# Altium footprint library MitchSwitch_Bypass.PCBLIB: 270 footprints (part 13 of 17)
Each footprint in its own frame and in the unit in brackets; x right, y up, seen from the top. Pads: shape width x height; smd on the part's side, far side on the other; paste and mask are expansions set on the pad; w line width, h text height; cw(c..) or ccw(c..) is an arc to the next point about the centre after c.
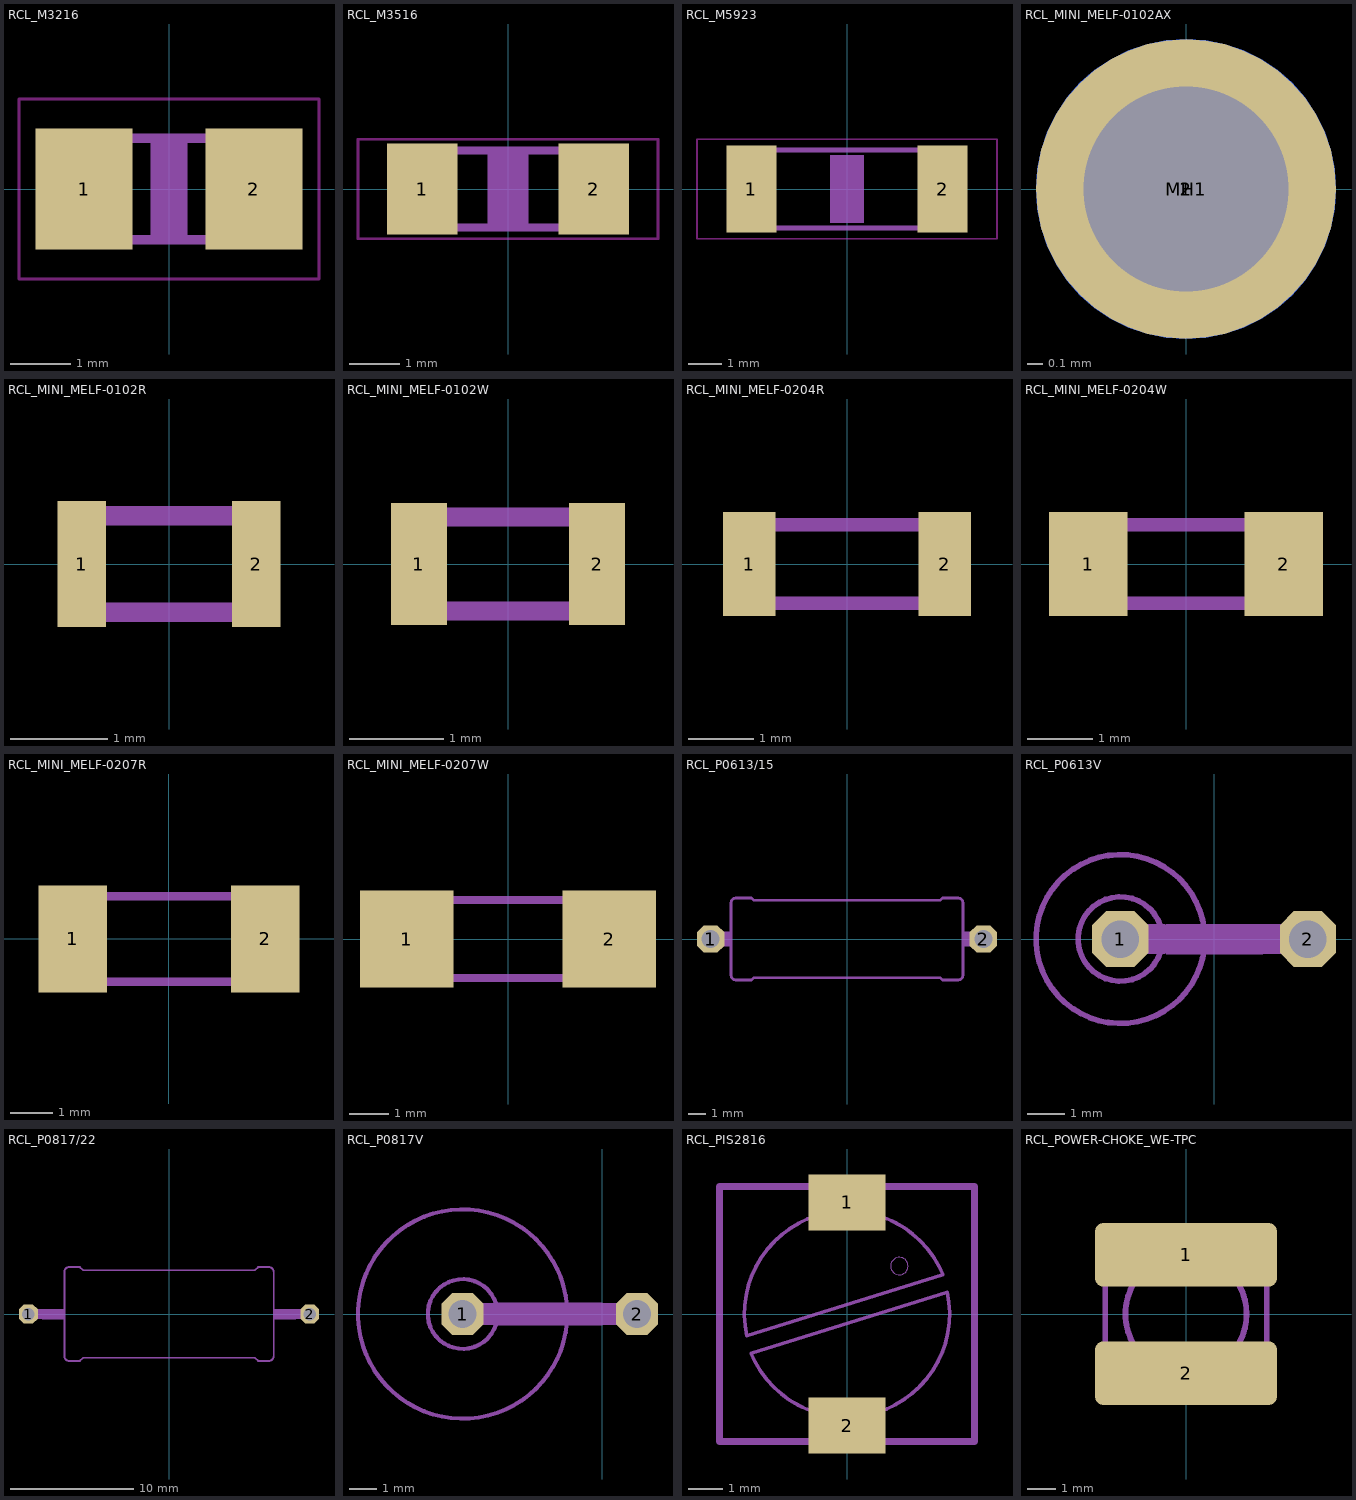
[diagram p12: the footprints below, top view; thin cyan lines are the x and y axes]

## RCL_M3216 [mm]
pads (2):
  rect 1.6x2 smd: 1(-1.4,0) 2(1.4,0)
Top Layer keep-out:
  lines w0.051: -2.473,-1.483 2.473,-1.483 2.473,1.483 -2.473,1.483 -2.473,-1.483
Mechanical 3:
  region: -1.702,-0.914 -1.702,0.914 -1.118,0.914 -1.118,-0.914
  region: 1.118,-0.914 1.118,0.914 1.702,0.914 1.702,-0.914
  lines w0.152: -1.143,-0.838 1.143,-0.838 ; -1.143,0.838 1.143,0.838
Top Glue Points:
  region: -0.3,-0.8 -0.3,0.8 0.3,0.8 0.3,-0.8

## RCL_M3516 [mil]
pads (2):
  rect 55.12x70.87 smd: 1(-66.93,0) 2(66.93,0)
Top Layer keep-out:
  lines w2: -117.05,-38.7 117.05,-38.7 117.05,38.7 -117.05,38.7 -117.05,-38.7
Mechanical 3:
  region: -73,-33 -73,33 -51,33 -51,-33
  region: 51,-33 51,33 73,33 73,-33
  lines w6: -52,-30 52,-30 ; -52,30 52,30
Top Glue Points:
  region: -15.75,-27.56 -15.75,27.56 15.75,27.56 15.75,-27.56

## RCL_M5923 [mil]
pads (2):
  rect 59.06x102.36 smd: 1(-112.2,0) 2(112.2,0)
Top Layer keep-out:
  lines w2: -176.1,-58.39 176.1,-58.39 176.1,58.39 -176.1,58.39 -176.1,-58.39
Mechanical 3:
  region: -120,-49 -120,49 -94,49 -94,-49
  region: 94,-49 94,49 120,49 120,-49
  lines w6: -96,46 95,46 ; -95,-46 95,-46
Top Glue Points:
  region: -19.69,-39.37 -19.69,39.37 19.69,39.37 19.69,-39.37

## RCL_MINI_MELF-0102AX [mil]
pads (3):
  rrect100% 74.8x74.8 smd: 1(0,0)
  rrect100% 74.8x74.8 smd far side: 2(0,0)
  round 51.18 hole 51.18 unplated: MH1(0,0)
Mechanical 3:
  circle w0: c0,0 r23.62
Mechanical 4:
  circle w0: c0,0 r23.62

## RCL_MINI_MELF-0102R [mil]
pads (2):
  rect 19.69x51.18 smd: 1(-35.43,0) 2(35.43,0)
Mechanical 3:
  lines w8: -39.37,-19.69 39.37,-19.69 39.37,19.69 -39.37,19.69 -39.37,-19.69

## RCL_MINI_MELF-0102W [mil]
pads (2):
  rect 23.62x51.18 smd: 1(-37.4,0) 2(37.4,0)
Mechanical 3:
  lines w8: -39.37,-19.69 39.37,-19.69 39.37,19.69 -39.37,19.69 -39.37,-19.69

## RCL_MINI_MELF-0204R [mil]
pads (2):
  rect 31.5x62.99 smd: 1(-59.06,0) 2(59.06,0)
Mechanical 3:
  lines w8: -66.93,-23.62 66.93,-23.62 66.93,23.62 -66.93,23.62 -66.93,-23.62
Mechanical 7:
  lines w8: -36.93,-23.62 36.93,-23.62 ; -36.93,23.62 36.93,23.62

## RCL_MINI_MELF-0204W [mil]
pads (2):
  rect 47.24x62.99 smd: 1(-59.06,0) 2(59.06,0)
Mechanical 3:
  lines w8: -66.93,-23.62 66.93,-23.62 66.93,23.62 -66.93,23.62 -66.93,-23.62
Mechanical 7:
  lines w8: -26.93,-23.62 26.93,-23.62 ; -26.93,23.62 26.93,23.62

## RCL_MINI_MELF-0207R [mil]
pads (2):
  rect 62.99x98.43 smd: 1(-88.58,0) 2(88.58,0)
Mechanical 3:
  lines w8: -110.24,-39.37 110.24,-39.37 110.24,39.37 -110.24,39.37 -110.24,-39.37
Mechanical 7:
  lines w8: -47.74,-39.37 47.74,-39.37 ; -47.74,39.37 47.74,39.37

## RCL_MINI_MELF-0207W [mil]
pads (2):
  rect 94.49x98.43 smd: 1(-102.36,0) 2(102.36,0)
Mechanical 3:
  lines w8: -110.24,-39.37 110.24,-39.37 110.24,39.37 -110.24,39.37 -110.24,-39.37
Mechanical 7:
  lines w8: -45.24,-39.37 45.24,-39.37 ; -45.24,39.37 45.24,39.37

## RCL_P0613/15 [mil]
pads (2):
  oct 60x60 / inner round 55.43 / far side oct 60x60 hole 40: 1(-300,0) 2(300,0)
Mechanical 3:
  region: -277,-16 -277,16 -255,16 -255,-16
  region: 255,-16 255,16 277,16 277,-16
  lines w6: -255,-25 -255,25 ; 255,-25 255,25
  lines w32: -300,0 -275,0 ; 275,0 300,0
Mechanical 7:
  lines w6: -255,-25 -255,-80 ccw(c-245,-80) -245,-90 -210,-90 -205,-85 205,-85 210,-90 245,-90 ccw(c245,-80) 255,-80 255,-25 ; -255,25 -255,80 cw(c-245,80) -245,90 -210,90 -205,85 205,85 210,90 245,90 cw(c245,80) 255,80 255,25

## RCL_P0613V [mil]
pads (2):
  oct 60x60 / inner round 55.43 / far side oct 60x60 hole 40: 1(-100,0) 2(100,0)
Mechanical 3:
  circle w6: c-100,0 r45
  lines w32: -100,0 -55,0 ; 55,0 100,0
Mechanical 7:
  circle w6: c-100,0 r90
  region: -51,-16 -51,16 52,16 52,-16

## RCL_P0817/22 [mil]
pads (2):
  oct 60x60 / inner round 55.43 / far side oct 60x60 hole 40: 1(-450,0) 2(450,0)
Mechanical 3:
  lines w32: -450,0 -410,0 ; 410,0 450,0
  text "0817" at 260,-89 h77.5
Mechanical 7:
  region: 335,-16 335,16 406,16 406,-16
  region: -406,-16 -406,16 -335,16 -335,-16
  lines w6: -335,-135 -335,135 cw(c-320,135) -320,150 -285,150 -275,140 275,140 285,150 320,150 cw(c320,135) 335,135 335,-135 cw(c320,-135) 320,-150 285,-150 275,-140 -275,-140 -285,-150 -320,-150 cw(c-320,-135) -335,-135

## RCL_P0817V [mil]
pads (2):
  oct 60x60 / inner round 55.43 / far side oct 60x60 hole 40: 1(-200,0) 2(50,0)
Mechanical 3:
  circle w6: c-200,0 r50
  lines w32: -200,0 -150,0 ; 0,0 50,0
Mechanical 7:
  circle w6: c-200,0 r150
  region: -150,-16 -150,16 0,16 0,-16
  text "0817" at -270,80 h62

## RCL_PIS2816 [mil]
pads (2):
  rect 86.61x62.99 smd: 1(0,125.98) 2(0,-125.98)
Mechanical 3:
  lines w4: -113.19,-24.61 cw(c0.6,0) 108.27,44.29 ; -108.27,-44.29 ccw(c-0.6,0) 113.19,24.61
  lines w8: -143.7,-143.7 143.7,-143.7 ; -143.7,143.7 143.7,143.7
Mechanical 7:
  circle w0: c59.06,54.13 r9.84
  lines w4: -54.13,102.36 ccw(c0,-0.04) -113.19,-24.61 108.27,44.29 ccw(c-0.01,-0.59) 50.2,105.32 ; -50.2,-105.32 cw(c0.01,0.59) -108.27,-44.29 113.19,24.61 cw(c0,0.04) 54.13,-102.36
  lines w8: -53.15,-143.7 -143.7,-143.7 -143.7,143.7 -53.15,143.7 ; 53.15,-143.7 143.7,-143.7 143.7,143.7 53.15,143.7

## RCL_POWER-CHOKE_WE-TPC [mil]
pads (2):
  rrect25% 248.03x86.61 smd: 1(0,80.71) 2(0,-80.71)
Mechanical 3:
  circle w7.87: c0,0 r82.68
  lines w7.87: -110.24,-90.55 ccw(c-90.55,-90.55) -90.55,-110.24 90.55,-110.24 ccw(c90.55,-90.55) 110.24,-90.55 110.24,90.55 ccw(c90.55,90.55) 90.55,110.24 -90.55,110.24 ccw(c-90.55,90.55) -110.24,90.55 -110.24,-90.55
Mechanical 7:
  lines w7.87: -110.24,-25.59 -110.24,25.59 ; -78.74,-25.59 cw(c0,0) -78.74,25.59 ; 78.74,-25.59 ccw(c0,0) 78.74,25.59 ; 110.24,-25.59 110.24,25.59